# Altium schematic symbol library SCH - COMPARATOR - ANALOG DEV AD8612.SCHLIB: 1 symbol
Pins are listed as number, name and electrical type; pins without a type are passive.

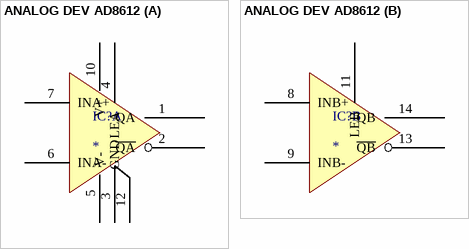
[diagram p0: symbol ANALOG DEV AD8612]

## ANALOG DEV AD8612
designator IC?
part A pins: 1 QA, 2 ~{QA}, 3 GND (power), 4 LEA, 5 V- (power), 6 INA-, 7 INA+, 10 V+ (power), 12 GND (power)
part B pins: 8 INB+, 9 INB-, 11 LEB, 13 ~{QB}, 14 QB